# Altium footprint library 5A_BRULA,Tomas.PcbLib: 94 footprints (part 3 of 6)
Each footprint in its own frame and in the unit in brackets; x right, y up, seen from the top. Pads: shape width x height; smd on the part's side, far side on the other; paste and mask are expansions set on the pad; w line width, h text height; cw(c..) or ccw(c..) is an arc to the next point about the centre after c.
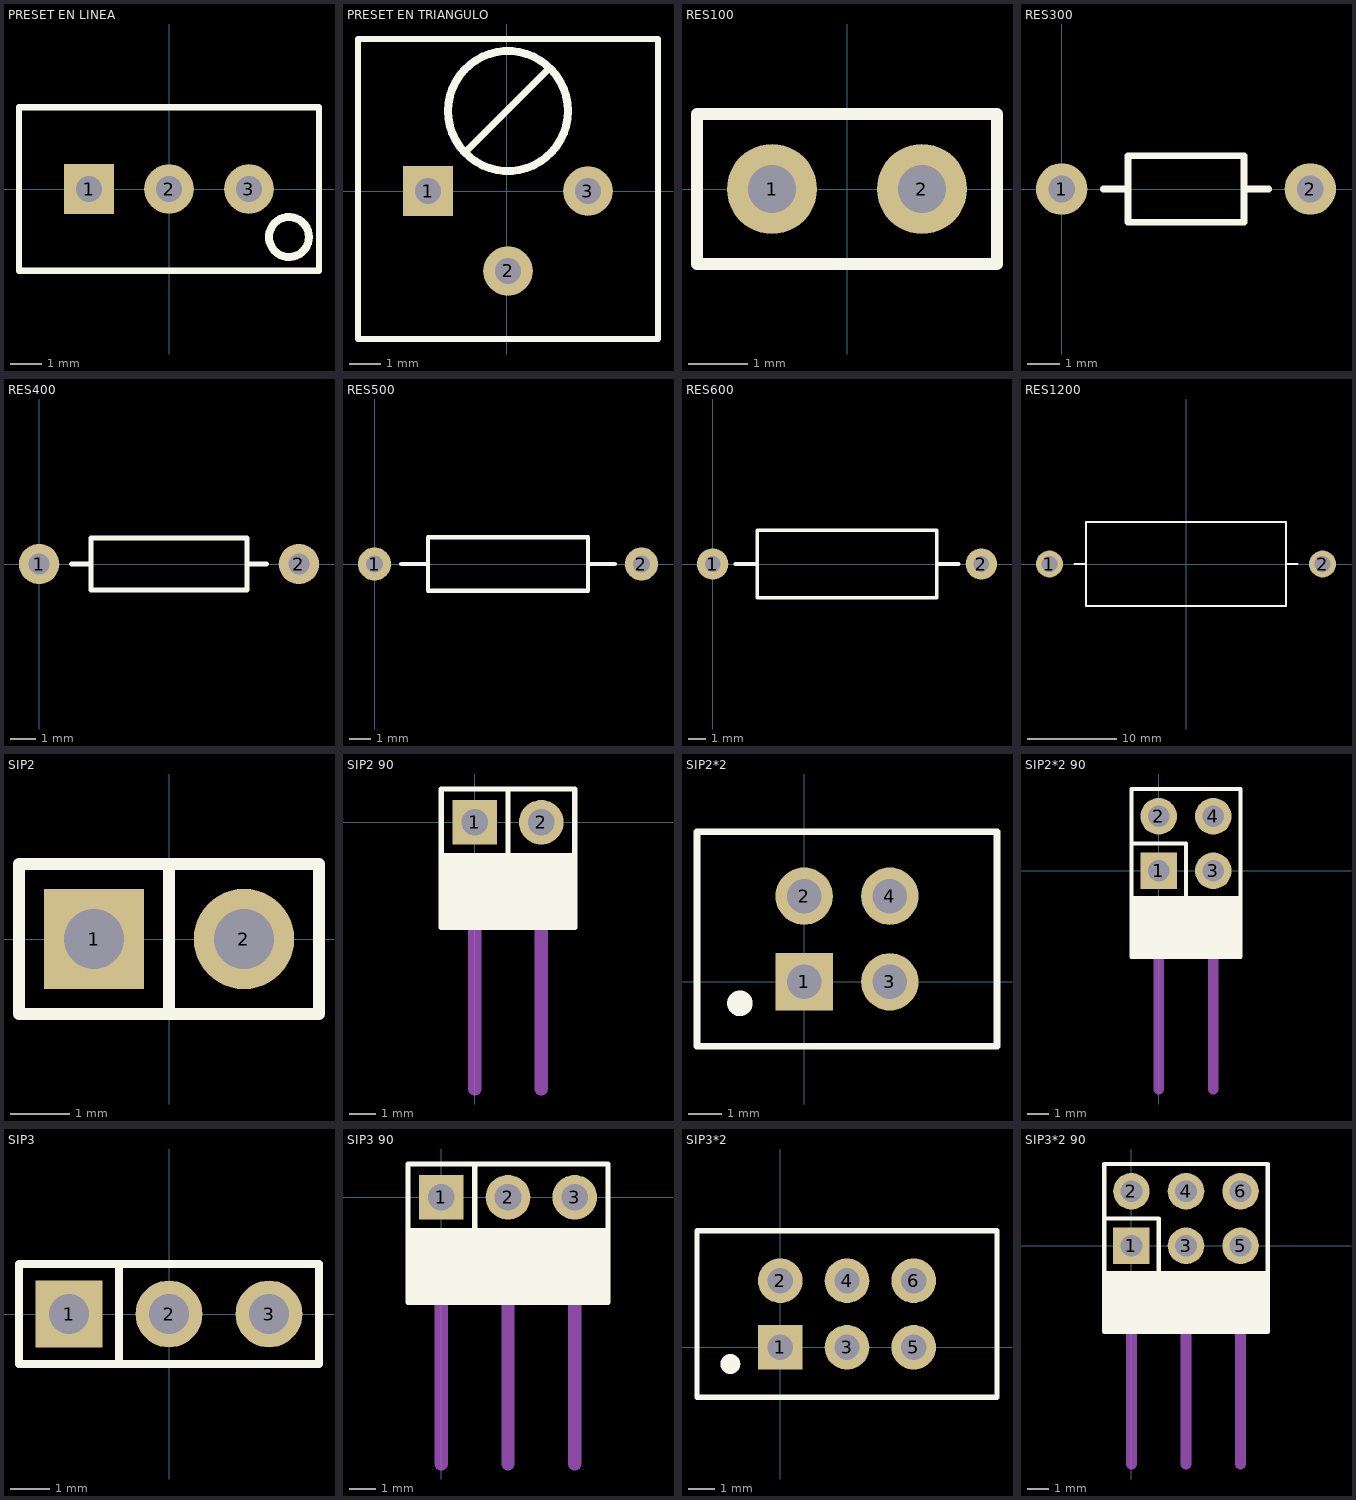
[diagram p2: the footprints below, top view; thin cyan lines are the x and y axes]

## PRESET EN LINEA [mil]
pads (3):
  rect 62x62 hole 32: 1(-100,0)
  round 62 hole 32: 2(0,0) 3(100,0)
Top Overlay:
  circle w10: c150,-60 r25
  lines w7.87: -187.5,-102.36 187.5,-102.36 187.5,102.36 -187.5,102.36 -187.5,-102.36
3D body "Preset.step": height 454.72, standoff -251.97, extent -185.2,-95.1 190,95.1

## PRESET EN TRIANGULO [mil]
pads (3):
  rect 62x62 hole 32: 1(-98.42,0)
  round 62 hole 32: 2(1.57,-100) 3(101.57,0)
Top Overlay:
  circle w10: c1.57,100 r75
  lines w7.87: -49.7,50.59 50.3,150.59 ; -185.93,-185 -185.93,190 189.07,190 189.07,-185 -185.93,-185
3D body "PRESET HORIZONTAL.step": height 196.85, standoff -190.16, extent -190,-187.6 185.2,187.6

## RES100 [mil]
pads (2):
  round 60 hole 32: 1(-50,0) 2(50,0)
Top Overlay:
  lines w7.87: -100,-50 -100,50 100,50 100,-50 -100,-50
3D body "RES100.step": height 62.17, standoff -282.32, extent -59.15,-36 87,36.48

## RES300 [mil]
pads (2):
  round 62 hole 32: 1(0,0) 2(300,0)
Top Overlay:
  lines w7.87: 50,0 80,0 ; 220,0 250,0 ; 80,-40 80,40 220,40 220,-40 80,-40
3D body "User Library-Resistencia-1.step": height 79.23, standoff -59.06, extent -10,-38.24 310,38.24

## RES400 [mil]
pads (2):
  round 62 hole 32: 1(0,0) 2(400,0)
Top Overlay:
  lines w7.87: 50,0 80,0 ; 320,0 350,0 ; 80,-40 80,40 320,40 320,-40 80,-40
3D body "RES400.step": height 95.81, standoff -119.69, extent -12,-45 412,46

## RES500 [mil]
pads (2):
  round 62 hole 32: 1(0,0) 2(500,0)
Top Overlay:
  lines w7.87: 50,0 100,0 ; 400,0 450,0 ; 100,-50 400,-50 400,50 100,50 100,-50
3D body "RES500.step": height 119.08, standoff -59.06, extent -5,-52.27 505,54

## RES600 [mil]
pads (2):
  round 70 hole 35: 1(0,0) 2(600,0)
Top Overlay:
  lines w8: 50,0 100,0 ; 500,0 550,0 ; 100,-75 500,-75 500,75 100,75 100,-75
3D body "SW3dPS-5083NW20K00J12AFX-2.STEP": height 141.35, standoff -102.55, extent -15.75,-67.8 615.75,70

## RES1200 [mm]
pads (2):
  round 3 hole 1.75: 1(-15.24,0) 2(15.24,0)
Top Overlay:
  lines w0.203: -12.446,0 -11.176,0 ; 11.176,0 12.446,0 ; -11.176,-4.699 -11.176,4.699 11.176,4.699 11.176,-4.699 -11.176,-4.699
3D body "SW3dPS-PRWC7W.STEP": height 9.51, standoff -3.36, extent -15.621,-4.5 15.61,4.5

## SIP2 [mm]
pads (2):
  rect 1.7x1.7 hole 1.016: 1(-1.27,0)
  round 1.7 hole 1.016: 2(1.27,0)
Top Overlay:
  lines w0.2: 0,-1.27 0,1.27 ; -2.54,-1.27 -2.54,1.27 2.54,1.27 2.54,-1.27 -2.54,-1.27

## SIP2 90 [mm]
pads (2):
  rect 1.7x1.7 hole 1.016: 1(0,0)
  round 1.7 hole 1.016: 2(2.54,0)
Top Overlay:
  rectangle: 1.27,-4 3.81,-1.27
  rectangle: -1.27,-4 1.27,-1.27
  lines w0.2: 1.27,1.27 1.27,-1.27 ; -1.27,-1.27 3.81,-1.27 ; -1.27,-1.27 -1.27,-4 1.27,-4 ; -1.27,-1.27 -1.27,1.27 3.81,1.27 3.81,-1.27 ; 1.27,-4 3.81,-4 3.81,-1.27 ; 1.27,-4 1.27,-1.27 ; 1.27,-4 1.27,-1.27
Mechanical 1:
  lines w0.508: 0,-10.16 0,-4.064 ; 2.54,-10.16 2.54,-4.064
3D body "User Library-m0003083.step": height 3.76, standoff -4.72, extent -1.27,-9.938 3.81,0.286

## SIP2*2 [mm]
pads (4):
  rect 1.7x1.7 hole 1.016: 1(0,0)
  round 1.7 hole 1.016: 2(0,2.54) 3(2.54,0) 4(2.54,2.54)
Top Overlay:
  circle w0.254: c-1.993,-0.635 r0.125
  circle w0.254: c-1.905,-0.635 r0.254
  lines w0.2: -3.175,-1.905 5.715,-1.905 5.715,4.445 -3.175,4.445 -3.175,-1.905
3D body "12536.stp": height 8.8, standoff -3, extent -1.27,-1.27 3.81,3.73

## SIP2*2 90 [mm]
pads (4):
  rect 1.7x1.7 hole 1.016: 1(0,0)
  round 1.7 hole 1.016: 2(0,2.54) 3(2.54,0) 4(2.54,2.54)
Top Overlay:
  rectangle: -1.27,-4 1.27,-1.27
  rectangle: 1.27,-4 3.81,-1.27
  lines w0.2: -1.27,1.27 1.27,1.27 1.27,-1.27 ; -1.27,-1.27 3.81,-1.27 ; -1.27,-1.27 -1.27,3.81 3.81,3.81 3.81,-1.27 ; -1.27,-1.27 -1.27,-4 1.27,-4 ; 1.27,-4 1.27,-1.27 ; 1.27,-4 1.27,-1.27 ; 1.27,-4 3.81,-4 3.81,-1.27
Mechanical 1:
  lines w0.508: 0,-10.16 0,-4.064 ; 2.54,-10.16 2.54,-4.064
3D body "pin_header_awl254-da-g04d.stp": height 5.1, standoff -2.9, extent -1.27,-9.996 3.81,2.884

## SIP3 [mm]
pads (3):
  rect 1.7x1.7 hole 1.016: 1(-2.54,0)
  round 1.7 hole 1.016: 2(0,0) 3(2.54,0)
Top Overlay:
  lines w0.2: -1.27,-1.27 -1.27,1.27 ; -3.81,-1.27 -3.81,1.27 3.81,1.27 3.81,-1.27 -3.81,-1.27
3D body "SIP3.step": height 8.38, standoff -2.54, extent -3.81,-1.295 3.81,1.245

## SIP3 90 [mm]
pads (3):
  rect 1.7x1.7 hole 1.016: 1(0,0)
  round 1.7 hole 1.016: 2(2.54,0) 3(5.08,0)
Top Overlay:
  rectangle: -1.27,-4 1.27,-1.27
  rectangle: 1.27,-4 3.81,-1.27
  rectangle: 3.81,-4 6.35,-1.27
  lines w0.2: 1.27,1.27 1.27,-1.27 ; -1.27,-1.27 6.35,-1.27 ; -1.27,-1.27 -1.27,1.27 6.35,1.27 6.35,-1.27 ; -1.27,-1.27 -1.27,-4 1.27,-4 ; 1.27,-4 1.27,-1.27 ; 1.27,-4 1.27,-1.27 ; 1.27,-4 3.81,-4 ; 3.81,-4 3.81,-1.27 3.81,-4 ; 3.81,-4 6.35,-4 6.35,-1.27
Mechanical 1:
  lines w0.508: 0,-10.16 0,-4.064 ; 2.54,-10.16 2.54,-4.064 ; 5.08,-10.16 5.08,-4.064
3D body "User Library-m0003083.step": height 3.76, standoff -4.72, extent -1.27,-9.938 3.81,0.286
3D body "User Library-m0003083.step": height 3.76, standoff -4.72, extent 1.27,-9.938 6.35,0.286

## SIP3*2 [mm]
pads (6):
  rect 1.7x1.7 hole 0.965: 1(0,0)
  round 1.7 hole 0.965: 2(0,2.54) 3(2.54,0) 4(2.54,2.54) 5(5.08,0) 6(5.08,2.54)
Top Overlay:
  circle w0.254: c-1.993,-0.635 r0.125
  circle w0.254: c-1.905,-0.635 r0.254
  lines w0.2: -3.175,-1.905 8.255,-1.905 8.255,4.445 -3.175,4.445 -3.175,-1.905
3D body "SIP3_2.step": height 10.1, standoff -1.5, extent -1.262,-1.295 6.358,3.785

## SIP3*2 90 [mm]
pads (6):
  rect 1.7x1.7 hole 1.016: 1(0,0)
  round 1.7 hole 1.016: 2(0,2.54) 3(2.54,0) 4(2.54,2.54) 5(5.08,0) 6(5.08,2.54)
Top Overlay:
  rectangle: 3.81,-4 6.35,-1.27
  rectangle: 1.27,-4 3.81,-1.27
  rectangle: -1.27,-4 1.27,-1.27
  lines w0.2: -1.27,1.27 1.27,1.27 1.27,-1.27 ; -1.27,-1.27 -1.27,-4 1.27,-4 ; -1.27,-1.27 6.35,-1.27 ; -1.27,-1.27 -1.27,3.81 6.35,3.81 6.35,-1.27 ; 1.27,-4 3.81,-4 ; 1.27,-4 1.27,-1.27 ; 1.27,-4 1.27,-1.27 ; 3.81,-4 6.35,-4 6.35,-1.27 ; 3.81,-4 3.81,-1.27 3.81,-4
Mechanical 1:
  lines w0.508: 0,-10.16 0,-4.064 ; 2.54,-10.16 2.54,-4.064 ; 5.08,-10.16 5.08,-4.064
3D body "pin_header_awl254-da-g06d.stp": height 5.1, standoff -2.9, extent -1.27,-9.906 6.35,2.974